# Altium footprint library ESPRESSIF_ESP32-DEVKITC-32UE.PcbLib: 1 footprints
Each footprint in its own frame and in the unit in brackets; x right, y up, seen from the top. Pads: shape width x height; smd on the part's side, far side on the other; paste and mask are expansions set on the pad; w line width, h text height; cw(c..) or ccw(c..) is an arc to the next point about the centre after c.
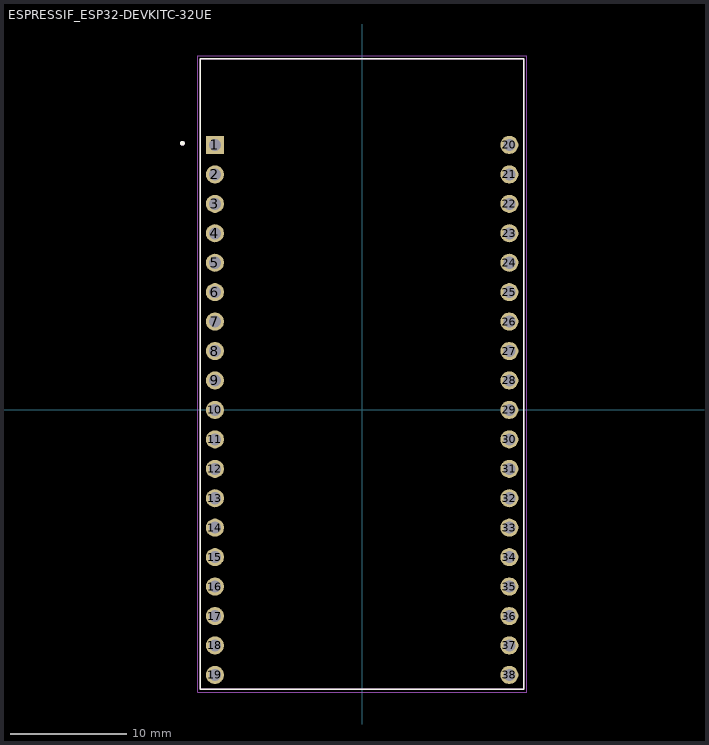
[diagram p0: the footprint, top view; thin cyan lines are the x and y axes]

## ESPRESSIF_ESP32-DEVKITC-32UE [mm]
pads (38):
  rect 1.56x1.56 / inner round 1.56 / far side rect 1.56x1.56 hole 1.04: 1(-12.7,22.86)
  round 1.56 hole 1.04: 2(-12.7,20.32) 3(-12.7,17.78) 4(-12.7,15.24) 5(-12.7,12.7) 6(-12.7,10.16) 7(-12.7,7.62) 8(-12.7,5.08) 9(-12.7,2.54) 10(-12.7,0) 11(-12.7,-2.54) 12(-12.7,-5.08) 13(-12.7,-7.62) 14(-12.7,-10.16) 15(-12.7,-12.7) 16(-12.7,-15.24) 17(-12.7,-17.78) 18(-12.7,-20.32) 19(-12.7,-22.86) 20(12.7,22.86) 21(12.7,20.32) 22(12.7,17.78) 23(12.7,15.24) 24(12.7,12.7) 25(12.7,10.16) 26(12.7,7.62) 27(12.7,5.08) 28(12.7,2.54) 29(12.7,0) 30(12.7,-2.54) 31(12.7,-5.08) 32(12.7,-7.62) 33(12.7,-10.16) 34(12.7,-12.7) 35(12.7,-15.24) 36(12.7,-17.78) 37(12.7,-20.32) 38(12.7,-22.86)
Top Overlay:
  circle w0.2: c-15.5,23 r0.1
  lines w0.127: -13.95,-24.1 13.95,-24.1 13.95,30.3 -13.95,30.3 -13.95,-24.1
Assembly Top:
  circle w0.2: c-15.5,23 r0.1
  lines w0.127: -13.95,-24.1 13.95,-24.1 13.95,30.3 -13.95,30.3 -13.95,-24.1
Courtyard Top:
  lines w0.05: -14.2,-24.35 14.2,-24.35 14.2,30.55 -14.2,30.55 -14.2,-24.35
3D body "step_temp.STEP": height 7.85, standoff -5.5, extent -13.95,-24.62 13.95,24.13